# Altium schematic symbol library TL431MFDT,215.Schlib: 1 symbol
Pins are listed as number, name and electrical type; pins without a type are passive.

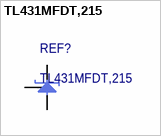
[diagram p0: symbol TL431MFDT,215]

## TL431MFDT,215
designator REF?
pins: 1 REF, 2 C, 3 A